# Altium footprint library LQV03XMVS-IF.PcbLib: 3 footprints
Each footprint in its own frame and in the unit in brackets; x right, y up, seen from the top. Pads: shape width x height; smd on the part's side, far side on the other; paste and mask are expansions set on the pad; w line width, h text height; cw(c..) or ccw(c..) is an arc to the next point about the centre after c.
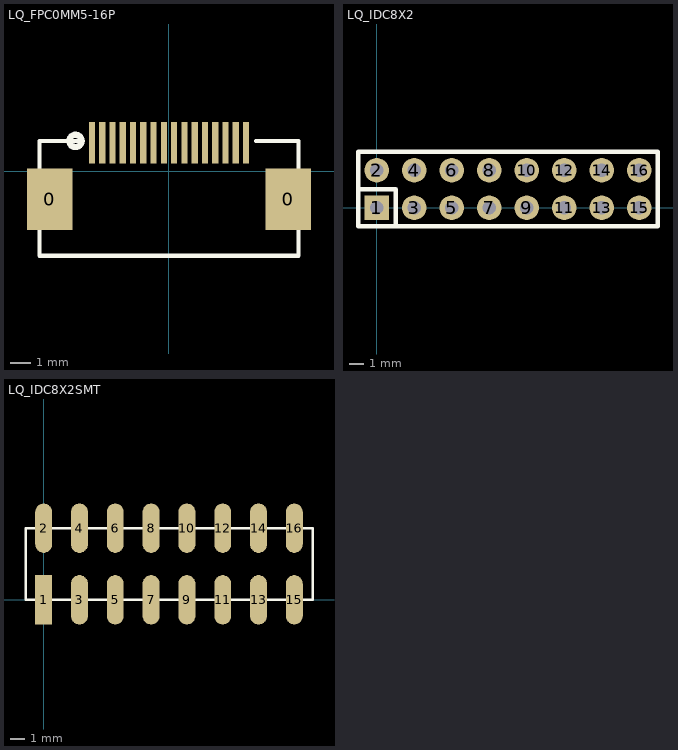
[diagram p0: the footprints below, top view; thin cyan lines are the x and y axes]

## LQ_FPC0MM5-16P [mm]
pads (18):
  rect 2.2x3 smd: 0(-5.8,-1.375) 0(5.8,-1.375)
  rect 0.3x2 smd: 1(-3.75,1.375) 2(-3.25,1.375) 3(-2.75,1.375) 4(-2.25,1.375) 5(-1.75,1.375) 6(-1.25,1.375) 7(-0.75,1.375) 8(-0.25,1.375) 9(0.25,1.375) 10(0.75,1.375) 11(1.25,1.375) 12(1.75,1.375) 13(2.25,1.375) 14(2.75,1.375) 15(3.25,1.375) 16(3.75,1.375)
Top Overlay:
  circle w0.3: c-4.55,1.465 r0.3
  lines w0.2: -4.2,1.455 -6.3,1.455 -6.3,-4.125 6.3,-4.125 6.3,1.455 4.24,1.455
3D body "HEADER-FPC-ZIF-SMD-Horizontal-0.5-16.stp": height 2.2, standoff -0.05, extent -6.08,-4.579 6.02,1.92

## LQ_IDC8X2 [mm]
height 1.05
pads (16):
  rect 1.65x1.65 hole 0.9: 1(0,0)
  round 1.65 hole 0.9: 2(0,2.54) 3(2.54,0) 4(2.54,2.54) 5(5.08,0) 6(5.08,2.54) 7(7.62,0) 8(7.62,2.54) 9(10.16,0) 10(10.16,2.54) 11(12.7,0) 12(12.7,2.54) 13(15.24,0) 14(15.24,2.54) 15(17.78,0) 16(17.78,2.54)
Top Overlay:
  lines w0.305: -1.27,1.27 1.27,1.27 1.27,-1.27 ; -1.27,-1.27 -1.27,3.81 19.05,3.81 19.05,-1.27 -1.27,-1.27

## LQ_IDC8X2SMT [mm]
pads (16):
  rect 1.2x3.5 smd: 1(0.01,0)
  oval 1.2x3.5 smd: 2(0.01,5.08) 3(2.55,0) 4(2.55,5.08) 5(5.09,0) 6(5.09,5.08) 7(7.63,0) 8(7.63,5.08) 9(10.17,0) 10(10.17,5.08) 11(12.71,0) 12(12.71,5.08) 13(15.25,0) 14(15.25,5.08) 15(17.79,0) 16(17.79,5.08)
Top Overlay:
  lines w0.2: -1.26,0 -1.26,5.08 19.1,5.08 19.1,0 -1.26,0